# EAGLE library part 74*299 (library 74ttl-din)
8-bit universal SHIFT/STORAGE REGISTER
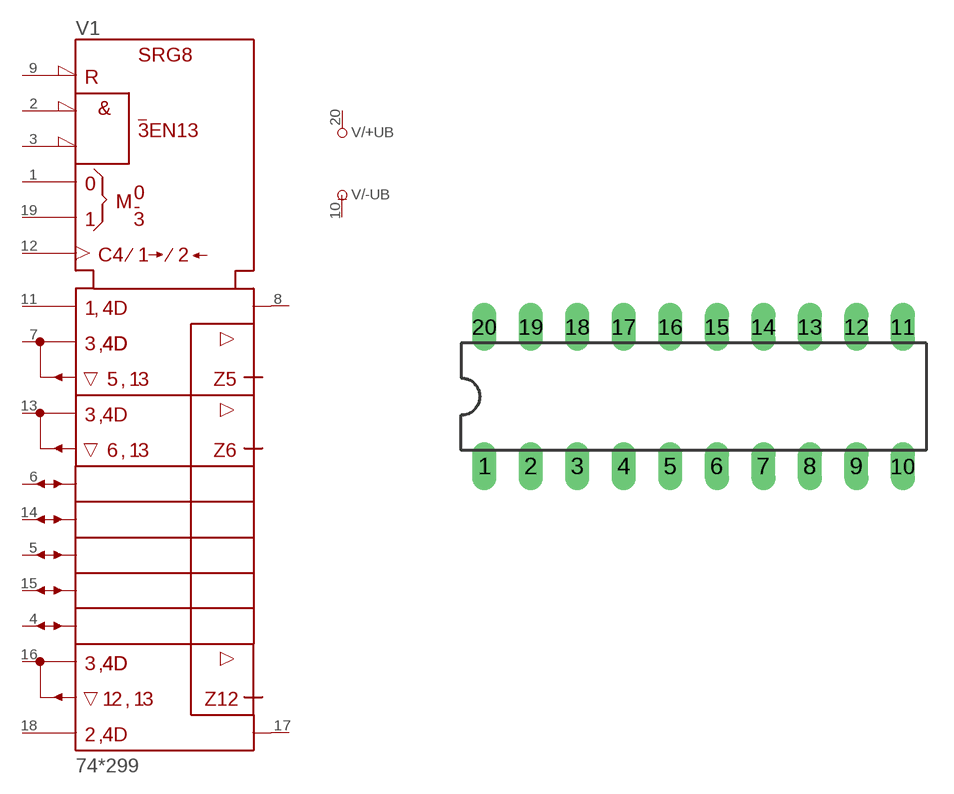
[diagram p137: symbol with the pads of DIL20; footprint DIL20]

Designator prefix V; gates /+UB=+UB /-UB=-UB 1=299

## 74299N  [DIL20]
1  1:S0  in
2  1:!G1  in
3  1:!G2  in
4  1:G/QG  in
5  1:E/QE  in
6  1:C/QC  in
7  1:A/QA  in
8  1:QA*  out
9  1:!CLR  in
10  /-UB:-UB  pwr
11  1:SR  in
12  1:CLK  out
13  1:B/QB  in
14  1:D/QD  in
15  1:F/QF  in
16  1:H/QH  in
17  1:QH*  out
18  1:SL  in
19  1:S1  in
20  /+UB:+UB  pwr

## Footprint DIL20 (pad centres in mm)
Dual In Line Package
drill 0.813 long: 1 -11.43,-3.81; 2 -8.89,-3.81; 3 -6.35,-3.81; 4 -3.81,-3.81; 5 -1.27,-3.81; 6 1.27,-3.81; 7 3.81,-3.81; 8 6.35,-3.81; 9 8.89,-3.81; 10 11.43,-3.81; 11 11.43,3.81; 12 8.89,3.81; 13 6.35,3.81; 14 3.81,3.81; 15 1.27,3.81; 16 -1.27,3.81; 17 -3.81,3.81; 18 -6.35,3.81; 19 -8.89,3.81; 20 -11.43,3.81